# EAGLE library part ADUM1241 (library si84xx)
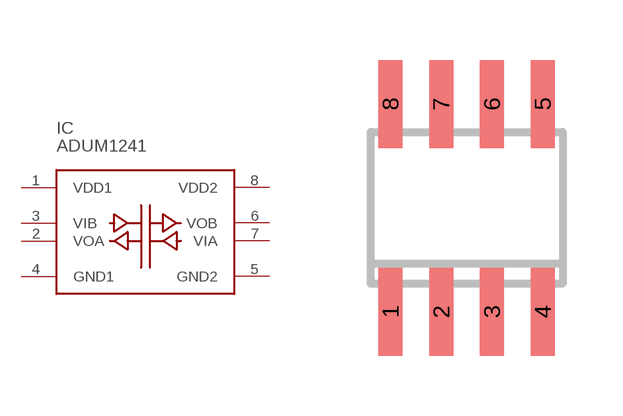
[diagram p2: symbol with the pads of SOIC8; footprint SOIC8]

Designator prefix IC

## ADUM1241  [SOIC8]
1  VDD1
2  VOA
3  VIB
4  GND1
5  GND2
6  VOB
7  VIA
8  VDD2

## Footprint SOIC8 (pad centres in mm)
Small Outline IC
smd 0.6 x 2.2: 1 -1.905,-2.6; 2 -0.635,-2.6; 3 0.635,-2.6; 4 1.905,-2.6; 5 1.905,2.6; 6 0.635,2.6; 7 -0.635,2.6; 8 -1.905,2.6